# Altium schematic symbol library SN74LVC2G241DCUR.SchLib: 1 symbol
Pins are listed as number, name and electrical type; pins without a type are passive.

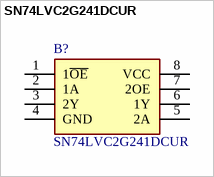
[diagram p0: symbol SN74LVC2G241DCUR]

## SN74LVC2G241DCUR
designator B?
Dual Buffer/Driver With 3-State Outputs; Manufacturer_Name: Texas Instruments; Geometry.Height: 0.9mm; Mouser Part Number: 595-SN74LVC2G241DCUR; Mouser Price/Stock: https://www.mouser.co.uk/ProductDetail/Texas-Instruments/SN74LVC2G241DCUR?qs=JS6RUWRH9DV7W1UO8b3P2w%3D%3D; Manufacturer_Part_Number: SN74LVC2G241DCUR; Datasheet Link: http://www.ti.com/lit/gpn/sn74lvc2g241
footprint SOP50P310X90-8N
pins: 1 1~{OE}, 2 1A, 3 2Y, 4 GND, 5 2A, 6 1Y, 7 2OE, 8 VCC